# Altium schematic symbol library PJ-014D-SMT.SchLib: 1 symbol
Pins are listed as number, name and electrical type; pins without a type are passive.

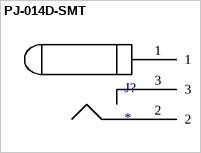
[diagram p0: symbol PJ-014D-SMT]

## PJ-014D-SMT
designator J?
footprint PJ-014D-SMT
pins: 1, 2, 3